# Altium footprint library PAL3.PcbLib: 145 footprints (part 4 of 10)
Each footprint in its own frame and in the unit in brackets; x right, y up, seen from the top. Pads: shape width x height; smd on the part's side, far side on the other; paste and mask are expansions set on the pad; w line width, h text height; cw(c..) or ccw(c..) is an arc to the next point about the centre after c.
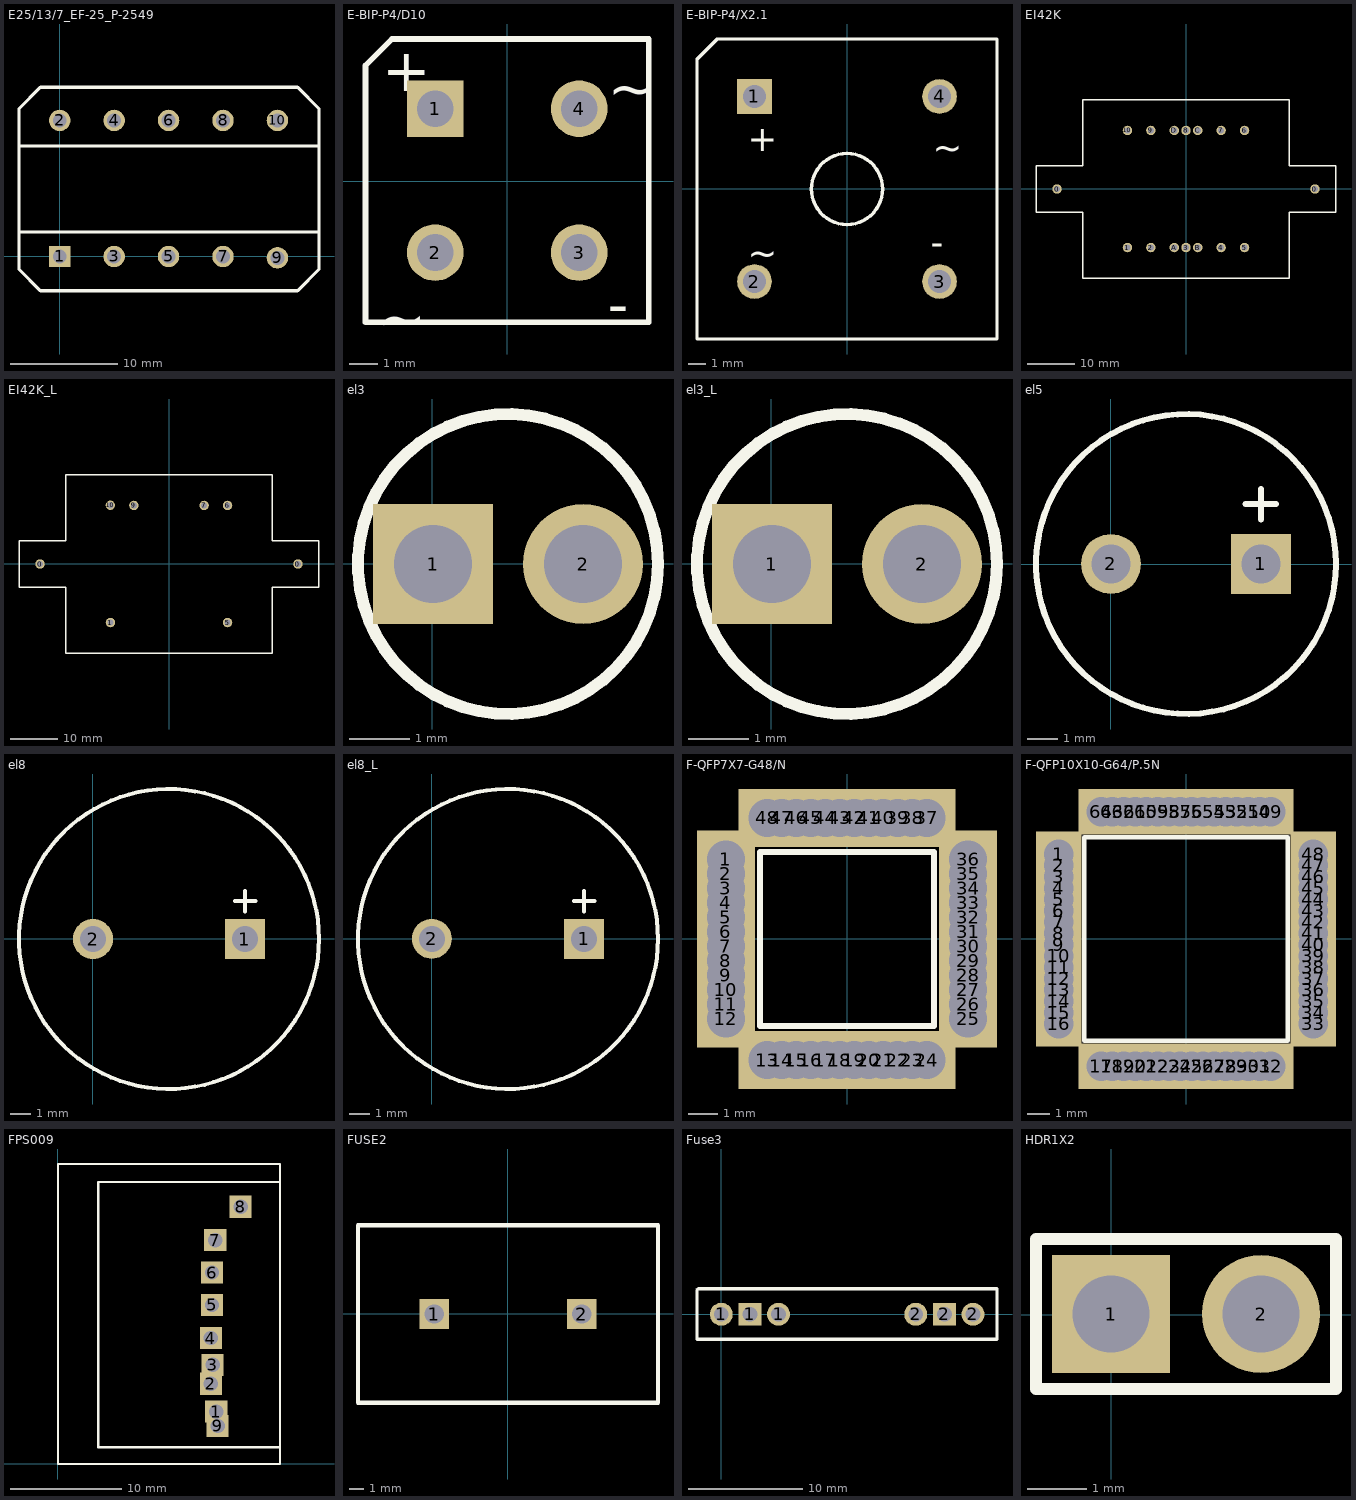
[diagram p3: the footprints below, top view; thin cyan lines are the x and y axes]

## E25/13/7_EF-25_P-2549 [mm]
pads (10):
  rect 2x2 hole 1.3: 1(0,0)
  round 2 hole 1.3: 2(0,12.7) 3(5.08,0) 4(5.08,12.7) 5(10.16,0) 6(10.16,12.7) 7(15.24,0) 8(15.24,12.7) 9(20.32,-0.125) 10(20.32,12.7)
Top Overlay:
  lines w0.3: -3.8,2.3 24.2,2.3 ; -3.8,10.3 24.1,10.3 ; -3.8,-1.2 -1.8,-3.2 22.2,-3.2 24.2,-1.2 24.2,13.8 22.2,15.8 -1.8,15.8 -3.8,13.8 -3.8,-1.2

## E-BIP-P4/D10 [mm]
pads (4):
  rect 2x2 hole 1.3: 1(-2.536,2.552)
  round 2 hole 1.3: 2(-2.536,-2.528) 3(2.544,-2.528) 4(2.544,2.552)
Top Overlay:
  lines w0.2: -4.996,-4.988 -4.996,4.076 -4.06,5.012 5.004,5.012 5.004,-4.988 -4.996,-4.988
  text "+" at -4.406,3.176 h1.5
  text "-" at 3.56,-5.068 h1.5
  text "~" at -4.568,-5.576 h1.5
  text "~" at 3.56,2.552 h1.5

## E-BIP-P4/X2.1 [mm]
pads (4):
  rect 2x2 hole 1.3: 1(-5.337,5.325)
  round 2 hole 1.3: 2(-5.337,-5.345) 3(5.333,-5.345) 4(5.333,5.325)
Top Overlay:
  circle w0.2: c-0.002,-0.01 r2.05
  lines w0.2: -8.652,-8.66 8.648,-8.66 8.648,8.64 -7.476,8.64 -8.652,7.464 -8.652,-8.66
  text "~" at -5.725,-4.447 h1.5
  text "~" at 4.943,1.649 h1.5
  text "-" at 4.823,-3.819 h1.5
  text "+" at -5.725,2.157 h1.5

## EI42K [mm]
pads (16):
  round 2 hole 1.3: 0(-27.504,-0.003) 0(27.496,-0.003) 1(-12.504,-12.503) 2(-7.504,-12.503) 3(-0.004,-12.503) 4(7.496,-12.503) 5(12.496,-12.503) 6(12.496,12.497) 7(7.496,12.497) 8(-0.004,12.497) 9(-7.504,12.497) 10(-12.504,12.497) A(-2.504,-12.503) B(2.496,-12.503) C(2.496,12.497) D(-2.504,12.497)
Top Overlay:
  lines w0.3: -32.004,-5.003 -22.004,-5.003 -22.004,-19.003 21.996,-19.003 21.996,-5.003 31.996,-5.003 31.996,-0.003 31.996,4.997 21.996,4.997 21.996,18.997 -22.004,18.997 -22.004,4.997 -32.004,4.997 -32.004,-0.003 -32.004,-5.003

## EI42K_L [mm]
pads (8):
  round 2 hole 1.3: 0(-27.504,-0.003) 0(27.496,-0.003) 5(12.496,-12.503) 6(12.496,12.497) 7(7.496,12.497) 9(-7.504,12.497) 10(-12.525,12.525)
  round 2 hole 1.3 paste+0 mask+0.5: 1(-12.504,-12.503)
Top Overlay:
  lines w0.3: -32.004,-5.003 -22.004,-5.003 -22.004,-19.003 21.996,-19.003 21.996,-5.003 31.996,-5.003 31.996,-0.003 31.996,4.997 21.996,4.997 21.996,18.997 -22.004,18.997 -22.004,4.997 -32.004,4.997 -32.004,-0.003 -32.004,-5.003

## el3 [mm]
pads (2):
  rect 2x2 hole 1.3: 1(0.011,-0.008)
  round 2 hole 1.3: 2(2.511,-0.008)
Top Overlay:
  circle w0.2: c1.261,-0.008 r2.5
  lines w0.3: -0.389,-0.008 0.411,-0.008 ; 0.011,-0.408 0.011,0.392

## el3_L [mm]
pads (2):
  rect 2x2 hole 1.3: 1(0.011,-0.008)
  round 2 hole 1.3: 2(2.511,-0.008)
Top Overlay:
  circle w0.2: c1.261,-0.008 r2.5
  lines w0.3: -0.389,-0.008 0.411,-0.008 ; 0.011,-0.408 0.011,0.392

## el5 [mm]
pads (2):
  rect 2x2 hole 1.3: 1(5.001,0.007)
  round 2 hole 1.3: 2(0.001,0.007)
Top Overlay:
  circle w0.2: c2.501,0.007 r5
  lines w0.2: 4.485,2.007 5.501,2.007 ; 5.001,1.491 5.001,2.507

## el8 [mm]
pads (2):
  rect 2x2 hole 1.3: 1(7.611,-0.011)
  round 2 hole 1.3: 2(0.011,-0.011)
Top Overlay:
  circle w0.2: c3.811,-0.011 r7.5
  lines w0.2: 7.111,1.889 8.127,1.889 ; 7.611,1.373 7.611,2.389

## el8_L [mm]
pads (2):
  rect 2x2 hole 1.3: 1(7.62,0)
  round 2 hole 1.3: 2(0,0)
Top Overlay:
  circle w0.2: c3.811,-0.011 r7.5
  lines w0.2: 7.111,1.889 8.127,1.889 ; 7.611,1.373 7.611,2.389

## F-QFP7X7-G48/N [mm]
pads (48):
  rect 2x2 on Top hole 1.3: 1(-4.192,2.749) 2(-4.192,2.249) 3(-4.192,1.749) 4(-4.192,1.249) 5(-4.192,0.749) 6(-4.192,0.249) 7(-4.192,-0.251) 8(-4.192,-0.751) 9(-4.192,-1.251) 10(-4.192,-1.751) 11(-4.192,-2.251) 12(-4.192,-2.751) 13(-2.767,-4.176) 14(-2.267,-4.176) 15(-1.767,-4.176) 16(-1.267,-4.176) 17(-0.767,-4.176) 18(-0.267,-4.176) 19(0.233,-4.176) 20(0.733,-4.176) 21(1.233,-4.176) 22(1.733,-4.176) 23(2.233,-4.176) 24(2.733,-4.176) 25(4.158,-2.751) 26(4.158,-2.251) 27(4.158,-1.751) 28(4.158,-1.251) 29(4.158,-0.751) 30(4.158,-0.251) 31(4.158,0.249) 32(4.158,0.749) 33(4.158,1.249) 34(4.158,1.749) 35(4.158,2.249) 36(4.158,2.749) 37(2.733,4.174) 38(2.233,4.174) 39(1.733,4.174) 40(1.233,4.174) 41(0.733,4.174) 42(0.233,4.174) 43(-0.267,4.174) 44(-0.767,4.174) 45(-1.267,4.174) 46(-1.767,4.174) 47(-2.267,4.174) 48(-2.767,4.174)
Top Overlay:
  circle w0.25: c-4.192,3.449 r0.125
  lines w0.2: -3.017,-3.001 2.983,-3.001 2.983,2.999 -3.017,2.999 -3.017,-3.001

## F-QFP10X10-G64/P.5N [mm]
pads (64):
  rect 2x2 on Top hole 1.3: 1(-5.627,3.74) 2(-5.627,3.24) 3(-5.627,2.74) 4(-5.627,2.24) 5(-5.627,1.74) 6(-5.627,1.24) 7(-5.627,0.74) 8(-5.627,0.24) 9(-5.627,-0.26) 10(-5.627,-0.76) 11(-5.627,-1.26) 12(-5.627,-1.76) 13(-5.627,-2.26) 14(-5.627,-2.76) 15(-5.627,-3.26) 16(-5.627,-3.76) 17(-3.752,-5.635) 18(-3.252,-5.635) 19(-2.752,-5.635) 20(-2.252,-5.635) 21(-1.752,-5.635) 22(-1.252,-5.635) 23(-0.752,-5.635) 24(-0.252,-5.635) 25(0.248,-5.635) 26(0.748,-5.635) 27(1.248,-5.635) 28(1.748,-5.635) 29(2.248,-5.635) 30(2.748,-5.635) 31(3.248,-5.635) 32(3.748,-5.635) 33(5.623,-3.76) 34(5.623,-3.26) 35(5.623,-2.76) 36(5.623,-2.26) 37(5.623,-1.76) 38(5.623,-1.26) 39(5.623,-0.76) 40(5.623,-0.26) 41(5.623,0.24) 42(5.623,0.74) 43(5.623,1.24) 44(5.623,1.74) 45(5.623,2.24) 46(5.623,2.74) 47(5.623,3.24) 48(5.623,3.74) 49(3.748,5.615) 50(3.248,5.615) 51(2.748,5.615) 52(2.248,5.615) 53(1.748,5.615) 54(1.248,5.615) 55(0.748,5.615) 56(0.248,5.615) 57(-0.252,5.615) 58(-0.752,5.615) 59(-1.252,5.615) 60(-1.752,5.615) 61(-2.252,5.615) 62(-2.752,5.615) 63(-3.252,5.615) 64(-3.752,5.615)
Top Overlay:
  circle w0.25: c-5.627,4.44 r0.125
  lines w0.2: -4.502,-4.51 -4.502,4.49 4.498,4.49 4.498,-4.51 -4.502,-4.51

## FPS009 [mm]
pads (9):
  rect 2x2 on Top hole 1.3: 1(14.25,4.7) 2(13.775,7.2) 3(13.925,8.9) 4(13.775,11.325) 5(13.875,14.3) 6(13.875,17.225) 7(14.175,20.15) 8(16.45,23.15) 9(14.375,3.4)
Top Overlay:
  lines w0.2: 20,1.475 3.625,1.475 3.625,25.375 20,25.375 ; 0,-0.025 0,27 20,27 20,-0.025 0,-0.025

## FUSE2 [mm]
pads (2):
  rect 2x2 on Top hole 1.3: 1(-4.999,-0.006) 2(5.001,-0.006)
Top Overlay:
  lines w0.3: -10.159,-6.006 10.161,-6.006 10.161,5.994 -10.159,5.994 -10.159,-6.006

## Fuse3 [mm]
pads (6):
  round 2 hole 1.3: 1(0,0) 1(5,0) 2(17,0) 2(22,0)
  rect 2x2 on Top hole 1.3: 1(2.5,0) 2(19.5,0)
Top Overlay:
  lines w0.3: -2.05,2.2 -2.125,2.125 -2.125,-2.15 -2.1,-2.175 24.075,-2.175 24.1,-2.15 24.1,2.225 -1.975,2.225

## HDR1X2 [mm]
pads (2):
  rect 2x2 hole 1.3: 1(-0.005,0.012)
  round 2 hole 1.3: 2(2.535,0.012)
Top Overlay:
  lines w0.2: -1.275,-1.258 3.805,-1.258 3.805,1.282 -1.275,1.282 -1.275,-1.258